# Altium schematic symbol library VARISTOR.SCHLIB: 1 symbol
Pins are listed as number, name and electrical type; pins without a type are passive.

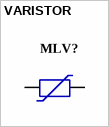
[diagram p0: symbol VARISTOR]

## VARISTOR
designator MLV?
pins: 1, 2
1 alternate drawing of the same symbol